# EAGLE library part TPS56X200 (library gost_micro)
TPS56X200 4.5-V To 17-V Input, Synchronous Step-Down Voltage Regulator TPS562200 - 2A converter with Integrated 122 mΩ and 72 mΩ FETs TPS563200 - 3A converter with Integrated 68 mΩ and 39 mΩ FETs Input Voltage Range: 4.5 V to 17 V Output Voltage Range:0.76 V to 7 V 650 kHz Switching Frequency
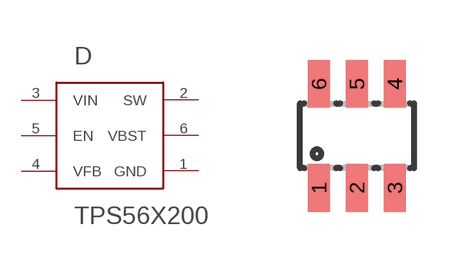
[diagram p18: symbol with the pads of SOT23-6L; footprint SOT23-6L]

Designator prefix D

## TPS56X200  [SOT23-6L]
1  GND
2  SW
3  VIN
4  VFB
5  EN
6  VBST

## Footprint SOT23-6L (pad centres in mm)
smd 0.55 x 1.2: 1 -0.95,-1.3; 2 0,-1.3; 3 0.95,-1.3; 4 0.95,1.3; 5 0,1.3; 6 -0.95,1.3